# Altium schematic symbol library IC_Cypress_CYBLE-012011-00_eec.SchLib: 1 symbol
Pins are listed as number, name and electrical type; pins without a type are passive.

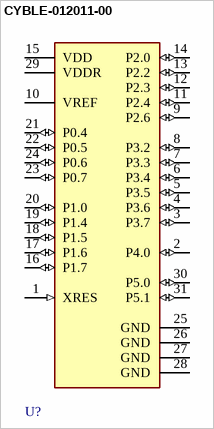
[diagram p0: symbol CYBLE-012011-00]

## CYBLE-012011-00
designator U?  (value not drawn)
pins: 1 XRES (in), 2 P4.0 (io), 3 P3.7 (io), 4 P3.6 (io), 5 P3.5 (io), 6 P3.4 (io), 7 P3.3 (io), 8 P3.2 (io), 9 P2.6 (io), 10 VREF (power), 11 P2.4 (io), 12 P2.3 (io), 13 P2.2 (io), 14 P2.0 (io), 15 VDD (power), 16 P1.7 (io), 17 P1.6 (io), 18 P1.5 (io), 19 P1.4 (io), 20 P1.0 (io), 21 P0.4 (io), 22 P0.5 (io), 23 P0.7 (io), 24 P0.6 (io), 25 GND (power), 26 GND (power), 27 GND (power), 28 GND (power), 29 VDDR (power), 30 P5.0 (io), 31 P5.1 (io)